# Altium footprint library BGM13P.PcbLib: 1 footprints
Each footprint in its own frame and in the unit in brackets; x right, y up, seen from the top. Pads: shape width x height; smd on the part's side, far side on the other; paste and mask are expansions set on the pad; w line width, h text height; cw(c..) or ccw(c..) is an arc to the next point about the centre after c.
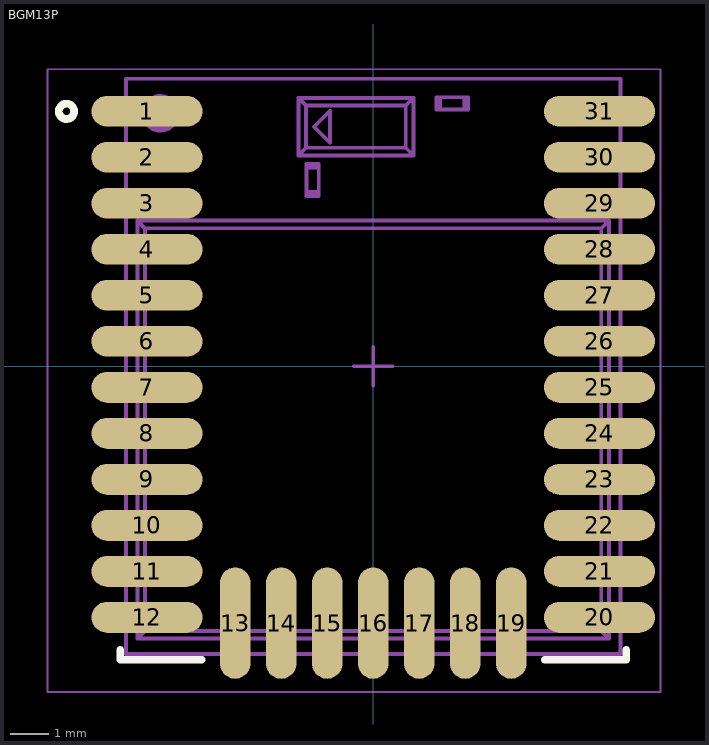
[diagram p0: the footprint, top view; thin cyan lines are the x and y axes]

## BGM13P [mm]
pads (31):
  oval 2.9x0.8 smd mask+0.05: 1(-5.9,6.65) 2(-5.9,5.45) 3(-5.9,4.25) 4(-5.9,3.05) 5(-5.9,1.85) 6(-5.9,0.65) 7(-5.9,-0.55) 8(-5.9,-1.75) 9(-5.9,-2.95) 10(-5.9,-4.15) 11(-5.9,-5.35) 12(-5.9,-6.55) 20(5.9,-6.55) 21(5.9,-5.35) 22(5.9,-4.15) 23(5.9,-2.95) 24(5.9,-1.75) 25(5.9,-0.55) 26(5.9,0.65) 27(5.9,1.85) 28(5.9,3.05) 29(5.9,4.25) 30(5.9,5.45) 31(5.9,6.65)
  oval 0.8x2.9 smd mask+0.05: 13(-3.6,-6.7) 14(-2.4,-6.7) 15(-1.2,-6.7) 16(0,-6.7) 17(1.2,-6.7) 18(2.4,-6.7) 19(3.6,-6.7)
Top Overlay:
  circle w0.2: c-8,6.65 r0.2
  lines w0.2: -6.6,-7.4 -6.6,-7.65 -4.475,-7.65 ; 4.475,-7.65 6.6,-7.65 6.6,-7.4
Assembly Top:
  circle w0.4: c-5.55,6.6 r0.3
  lines w0.1: -6.15,-7.1 6.15,-7.1 ; -6.15,-7.1 -5.95,-6.9 ; -6.15,-7.1 -6.15,3.8 ; -6.15,3.8 6.15,3.8 ; -6.15,3.8 -5.95,3.6 ; -5.95,-6.9 5.95,-6.9 ; -5.95,-6.9 -5.95,3.6 ; -5.95,3.6 5.95,3.6 ; -1.95,5.5 1.05,5.5 ; -1.95,5.5 -1.95,7 ; -1.95,5.5 -1.75,5.7 ; -1.95,7 1.05,7 ; -1.95,7 -1.75,6.8 ; -1.75,5.7 0.85,5.7 ; -1.75,5.7 -1.75,6.8 ; -1.75,6.8 0.85,6.8 ; -1.737,4.546 -1.737,5.181 ; -1.737,4.546 -1.418,4.546 ; -1.737,4.546 -1.737,4.446 -1.418,4.446 -1.418,4.546 ; -1.737,5.181 -1.418,5.181 ; -1.737,5.181 -1.737,5.281 -1.418,5.281 -1.418,5.181 ; -1.418,4.546 -1.418,5.181 ; 0.85,5.7 0.85,6.8 ; 0.85,5.7 1.05,5.5 ; 0.85,6.8 1.05,7 ; 1.05,5.5 1.05,7 ; 1.747,6.7 2.382,6.7 ; 1.747,6.7 1.747,7.019 ; 1.747,6.7 1.647,6.7 1.647,7.019 1.747,7.019 ; 1.747,7.019 2.382,7.019 ; 2.382,6.7 2.382,7.019 ; 2.382,6.7 2.482,6.7 2.482,7.019 2.382,7.019 ; 5.95,-6.9 6.15,-7.1 ; 5.95,-6.9 5.95,3.6 ; 5.95,3.6 6.15,3.8 ; 6.15,-7.1 6.15,3.8 ; -6.45,-7.5 6.45,-7.5 6.45,7.5 -6.45,7.5 -6.45,-7.5 ; -1.545,6.25 -1.129,5.834 -1.129,6.666 -1.545,6.25
  text "'.Designator'" at -3.15,1.425 h0.5
Courtyard Top:
  lines w0.05: -8.5,-8.5 -8.5,7.75 7.5,7.75 7.5,-8.5 -8.5,-8.5
  lines w0.1: -0.5,0 0.5,0 ; 0,-0.5 0,0.5
3D body "User Library-BGM13P22.step": height 2.01, standoff -0.01, extent -6.5,-7.45 6.5,7.55